# Altium schematic symbol library axsem_symbols.SCHLIB: 5 symbols
Pins are listed as number, name and electrical type; pins without a type are passive.

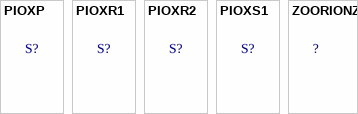
[diagram p0: symbols PIOXP to ZOORIONZ]

## PIOXP
designator S?
footprint PIOX-P

## PIOXR1
designator S?
footprint PIOX

## PIOXR2
designator S?
footprint PIOX-RECT

## PIOXS1
designator S?
footprint PIOX-SMALL

## ZOORIONZ
designator ?
footprint ZOORION-Z